# Altium schematic symbol library SCH - MCU - ATMEGA - MICROCHIP ATMEGA8-16AN TQFP32.SchLib: 1 symbol
Pins are listed as number, name and electrical type; pins without a type are passive.

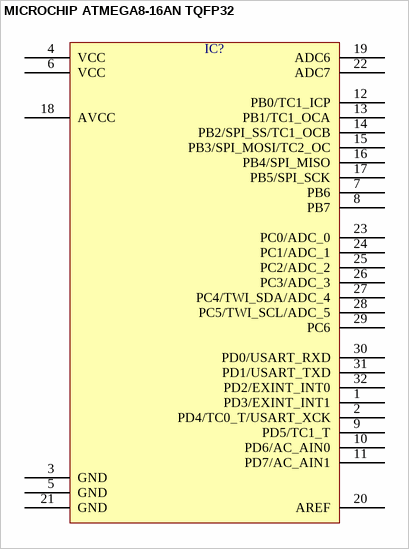
[diagram p0: symbol MICROCHIP ATMEGA8-16AN TQFP32]

## MICROCHIP ATMEGA8-16AN TQFP32
designator IC?  (value not drawn)
pins: 1 PD3/EXINT_INT1, 2 PD4/TC0_T/USART_XCK, 3 GND, 4 VCC, 5 GND, 6 VCC, 7 PB6, 8 PB7, 9 PD5/TC1_T, 10 PD6/AC_AIN0, 11 PD7/AC_AIN1, 12 PB0/TC1_ICP, 13 PB1/TC1_OCA, 14 PB2/SPI_SS/TC1_OCB, 15 PB3/SPI_MOSI/TC2_OC, 16 PB4/SPI_MISO, 17 PB5/SPI_SCK, 18 AVCC, 19 ADC6, 20 AREF, 21 GND, 22 ADC7, 23 PC0/ADC_0, 24 PC1/ADC_1, 25 PC2/ADC_2, 26 PC3/ADC_3, 27 PC4/TWI_SDA/ADC_4, 28 PC5/TWI_SCL/ADC_5, 29 PC6, 30 PD0/USART_RXD, 31 PD1/USART_TXD, 32 PD2/EXINT_INT0